# EAGLE library part CS42L51_SW (library cirrus-2)
CODEC (Software Mode) Low Power, Stereo CODEC with Headphone Amp
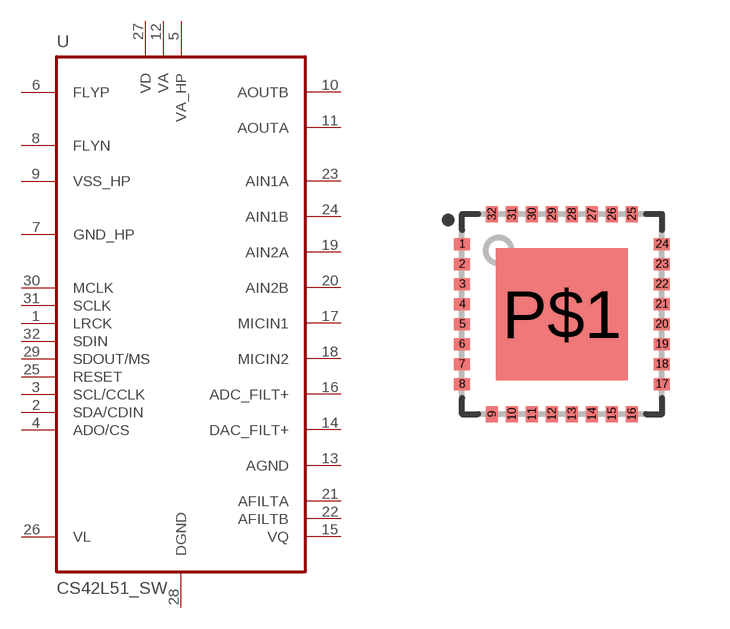
[diagram p7: symbol with the pads of QFN-32L; footprint QFN-32L]

Designator prefix U

## CS42L51_SW  [QFN-32L]
1  LRCK
2  SDA/CDIN
3  SCL/CCLK
4  ADO/CS
5  VA_HP
6  FLYP
7  GND_HP
8  FLYN
9  VSS_HP
10  AOUTB
11  AOUTA
12  VA
13  AGND
14  DAC_FILT+
15  VQ
16  ADC_FILT+
17  MICIN1
18  MICIN2
19  AIN2A
20  AIN2B
21  AFILTA
22  AFILTB
23  AIN1A
24  AIN1B
25  RESET
26  VL
27  VD
28  DGND
29  SDOUT/MS
30  MCLK
31  SCLK
32  SDIN

## Footprint QFN-32L (pad centres in mm)
QFN-32L body 5x5mm/JEDEC MO-220
smd 0.4 x 0.3: 1 -2.5,1.75; 2 -2.5,1.25; 3 -2.5,0.75; 4 -2.5,0.25; 5 -2.5,-0.25; 6 -2.5,-0.75; 7 -2.5,-1.25; 8 -2.5,-1.75; 17 2.5,-1.75; 18 2.5,-1.25; 19 2.5,-0.75; 20 2.5,-0.25; 21 2.5,0.25; 22 2.5,0.75; 23 2.5,1.25; 24 2.5,1.75
smd 0.3 x 0.4: 9 -1.75,-2.5; 10 -1.25,-2.5; 11 -0.75,-2.5; 12 -0.25,-2.5; 13 0.25,-2.5; 14 0.75,-2.5; 15 1.25,-2.5; 16 1.75,-2.5; 25 1.75,2.5; 26 1.25,2.5; 27 0.75,2.5; 28 0.25,2.5; 29 -0.25,2.5; 30 -0.75,2.5; 31 -1.25,2.5; 32 -1.75,2.5
smd 3.3 x 3.3: P$1 0,0